# EAGLE library part IPS6404L-SQ-SPN (library radiva)
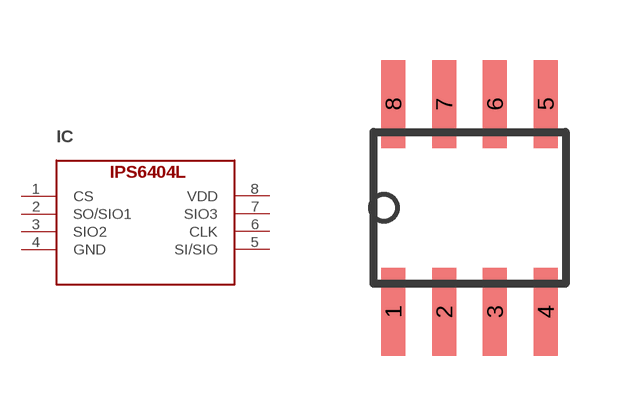
[diagram p8: symbol with the pads of SO-08; footprint SO-08]

Designator prefix IC

## IPS6404L-SQ-SPN  [SO-08]
1  CS
2  SO/SIO1
3  SIO2
4  GND
5  SI/SIO
6  CLK
7  SIO3
8  VDD

## Footprint SO-08 (pad centres in mm)
Small Outline Narrow Plastic Gull Wing 150-mil body, package type SN
smd 0.6 x 2.2: 1 -1.905,-2.6; 2 -0.635,-2.6; 3 0.635,-2.6; 4 1.905,-2.6; 5 1.905,2.6; 6 0.635,2.6; 7 -0.635,2.6; 8 -1.905,2.6